# EAGLE library part SCC2230 (library murata-sensor)
Accelerometer, Gyroscope, 3 Axis Sensor SPI Output
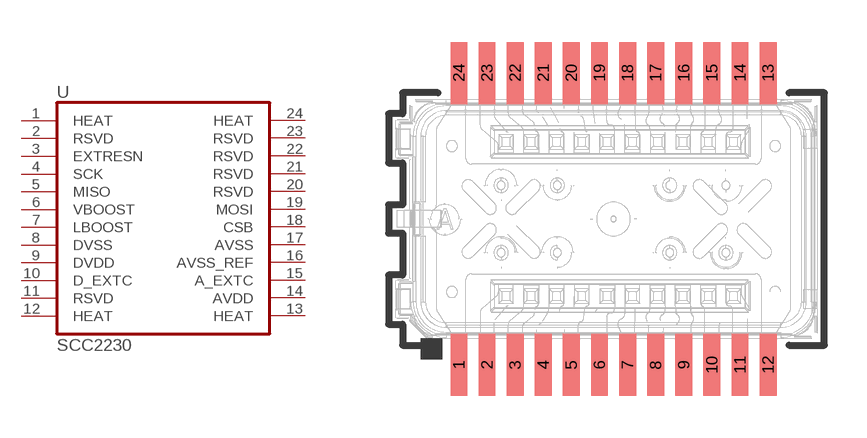
[diagram p2: symbol with the pads of SCC2230; footprint SCC2230]

Designator prefix U

## SCC2230  [SCC2230]
1  HEAT  pas
2  RSVD  pas
3  EXTRESN  pas
4  SCK  in
5  MISO  pas
6  VBOOST  pas
7  LBOOST  pas
8  DVSS  pwr
9  DVDD  pwr
10  D_EXTC  pas
11  RSVD  pas
12  HEAT  pas
13  HEAT  pas
14  AVDD  pwr
15  A_EXTC  pas
16  AVSS_REF  pwr
17  AVSS  pwr
18  CSB  in
19  MOSI  in
20  RSVD  pas
21  RSVD  pas
22  RSVD  pas
23  RSVD  pas
24  HEAT  pas

## Footprint SCC2230 (pad centres in mm)
Gyroscope and 3-axis accelerometer
smd 0.6 x 2.2: 1 -5.5,-5.2; 2 -4.5,-5.2; 3 -3.5,-5.2; 4 -2.5,-5.2; 5 -1.5,-5.2; 6 -0.5,-5.2; 7 0.5,-5.2; 8 1.5,-5.2; 9 2.5,-5.2; 10 3.5,-5.2; 11 4.5,-5.2; 12 5.5,-5.2; 13 5.5,5.2; 14 4.5,5.2; 15 3.5,5.2; 16 2.5,5.2; 17 1.5,5.2; 18 0.5,5.2; 19 -0.5,5.2; 20 -1.5,5.2; 21 -2.5,5.2; 22 -3.5,5.2; 23 -4.5,5.2; 24 -5.5,5.2